# Altium footprint library dl001.PcbLib: 18 footprints (part 1 of 2)
Each footprint in its own frame and in the unit in brackets; x right, y up, seen from the top. Pads: shape width x height; smd on the part's side, far side on the other; paste and mask are expansions set on the pad; w line width, h text height; cw(c..) or ccw(c..) is an arc to the next point about the centre after c.
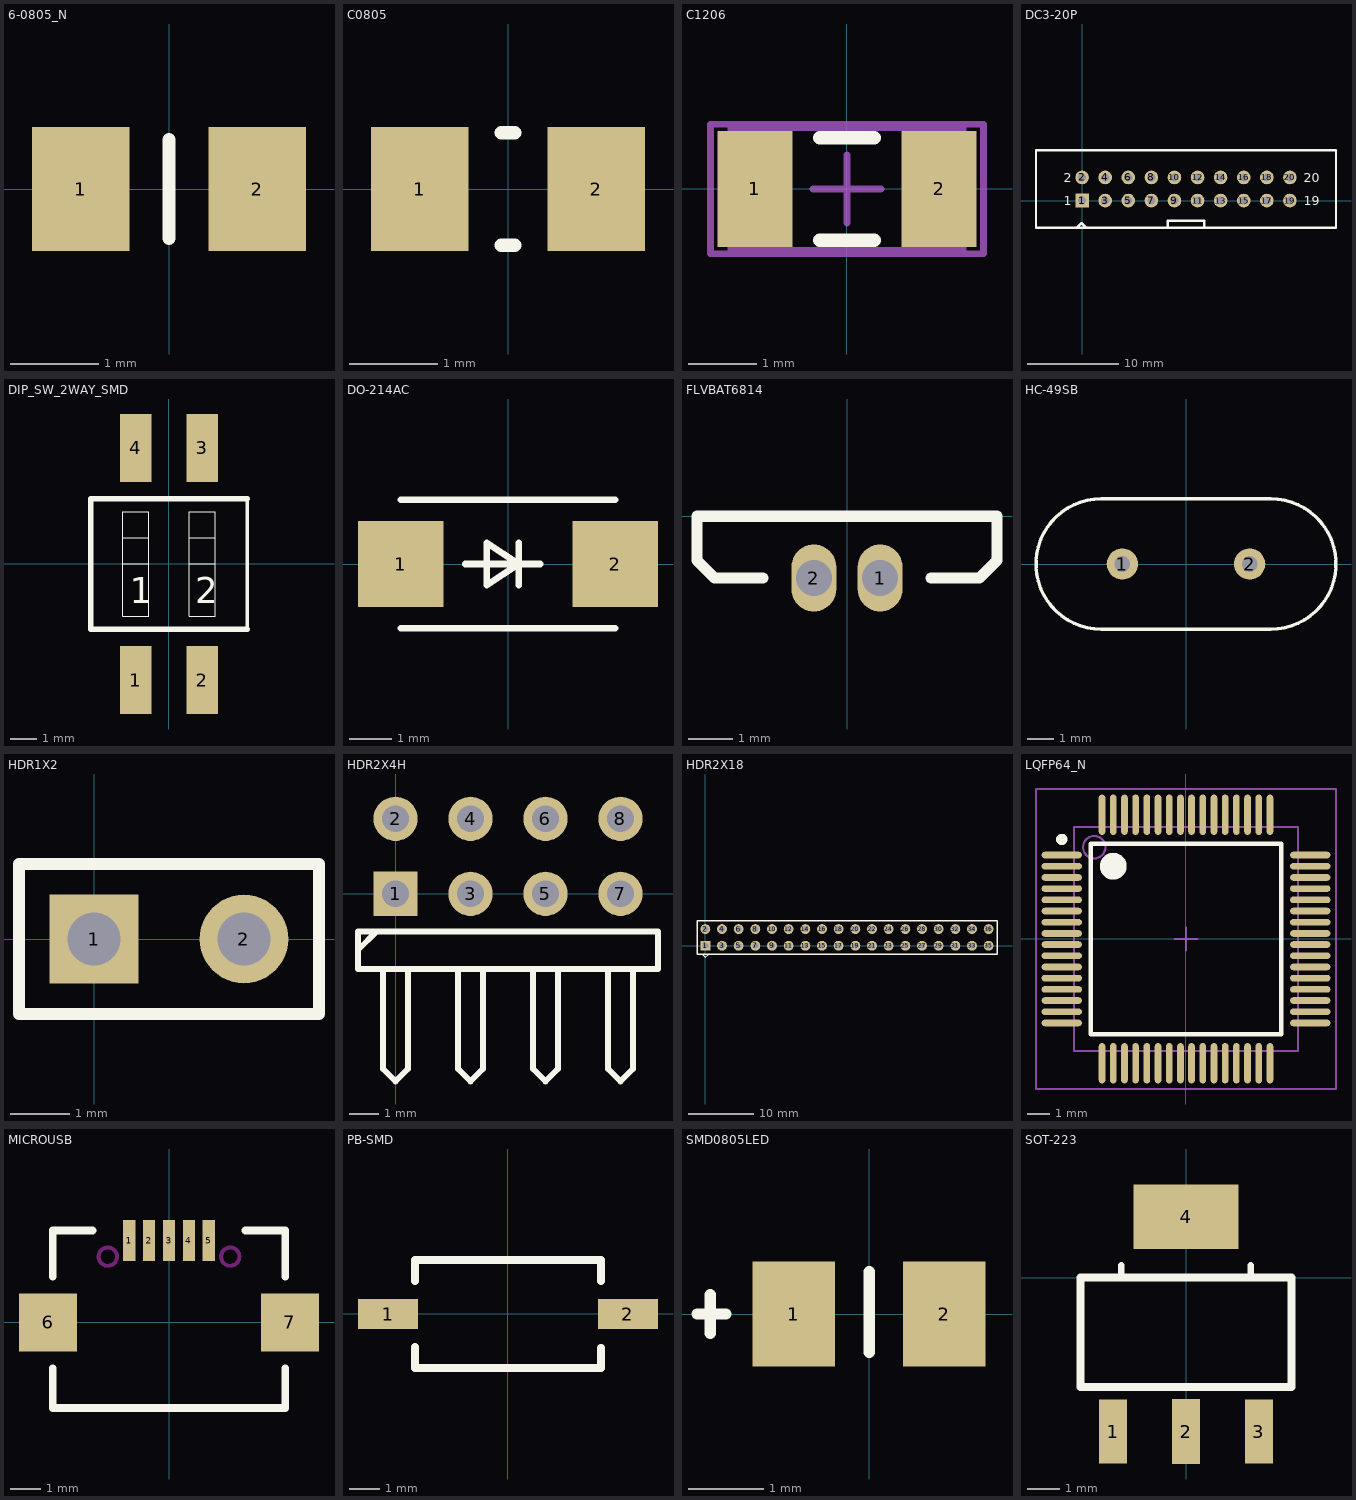
[diagram p0: the footprints below, top view; thin cyan lines are the x and y axes]

## 6-0805_N [mm] "Chip Resistor, Body 2.0x1.2mm, IPC Medium Density"
height 0.7
pads (2):
  rect 1.1x1.4 smd: 1(-1,0) 2(1,0)
Top Overlay:
  lines w0.152: 0,-0.559 0,0.559

## C0805 [mm] "Chip Capacitor, Body 2.0x1.3mm, IPC High Density"
height 1.4
pads (2):
  rect 1.1x1.4 smd: 1(-1,0) 2(1,0)
Top Overlay:
  lines w0.152: -0.076,-0.635 0.076,-0.635 ; -0.076,0.635 0.076,0.635

## C1206 [mm] "Chip Capacitor, Body 3.2x1.6mm, IPC High Density"
height 1.3
pads (2):
  rect 1.1x1.7 smd: 1(-1.35,0) 2(1.35,0)
Top Overlay:
  lines w0.2: -0.4,-0.75 0.4,-0.75 ; -0.4,0.75 0.4,0.75
Mechanical 13:
  lines w0.1: -1.7,-0.9 -1.7,0.9 1.7,0.9 1.7,-0.9 -1.7,-0.9
Mechanical 15:
  lines w0.1: -0.5,0 0.5,0 ; 0,-0.5 0,0.5 ; -2,-0.95 -2,0.95 2,0.95 2,-0.95 -2,-0.95
3D body: height 1.3, standoff 0, extent -1.7,-0.9 1.7,0.9

## DC3-20P [mm] "Connector; Header; 10x2 Position; Right Angle"
height 5
pads (20):
  rect 1.5x1.5 hole 0.9: 1(0,0)
  round 1.5 hole 0.9: 2(0,2.54) 3(2.54,0) 4(2.54,2.54) 5(5.08,0) 6(5.08,2.54) 7(7.62,0) 8(7.62,2.54) 9(10.16,0) 10(10.16,2.54) 11(12.7,0) 12(12.7,2.54) 13(15.24,0) 14(15.24,2.54) 15(17.78,0) 16(17.78,2.54) 17(20.32,0) 18(20.32,2.54) 19(22.86,0) 20(22.86,2.54)
Top Overlay:
  lines w0.254: -0.57,-2.98 -0.07,-2.48 0.43,-2.98 ; 9.43,-2.98 9.43,-2.23 13.43,-2.23 13.43,-2.98 ; -5.07,-2.98 -5.07,5.52 27.93,5.52 27.93,-2.98 -5.07,-2.98
  text "20" at 24.384,2.032 h1.02
  text "19" at 24.384,-0.508 h1.02
  text "2" at -2.032,2.032 h1.02
  text "1" at -2.032,-0.508 h1.02

## DIP_SW_2WAY_SMD [mm]
pads (4):
  rect 1.2x2.6 smd: 1(-1.27,-4.45) 2(1.27,-4.45) 3(1.27,4.45) 4(-1.27,4.45)
Top Overlay:
  lines w0.025: -1.77,0 -0.77,0 ; -1.77,1 -0.77,1 ; 0.77,0 1.77,0 ; 0.77,1 1.77,1 ; -1.77,-2 -1.77,2 -0.77,2 -0.77,-2 -1.77,-2 ; 0.77,-2 0.77,2 1.77,2 1.77,-2 0.77,-2
  lines w0.152: 3,-2.5 3,2.5
  lines w0.2: 3,-2.5 -3,-2.5 -3,2.5 3,2.5
  text "2" at 1,-1.5 h1
  text "1" at -1.5,-1.5 h1

## DO-214AC [mm]
height 2.032
pads (2):
  rect 2x2 smd: 1(-2.5,0) 2(2.5,0)
Top Overlay:
  lines w0.152: -2.5,-1.5 2.5,-1.5 ; -2.5,1.5 2.5,1.5 ; -1,0 0.75,0 ; 0.25,-0.5 0.25,0.5 ; -0.5,-0.5 -0.5,0.5 0.25,0 -0.5,-0.5

## FLVBAT6814 [mil]
height 267.72
pads (2):
  oval 40x60 hole 32: 1(29.53,-55.12) 2(-29.53,-55.12)
Top Overlay:
  lines w10: -75,-55 -118.11,-55.12 -133.86,-39.37 -133.86,0 133.86,0 133.86,-39.37 118.11,-55.12 75,-55

## HC-49SB [mm]
height 0.127
pads (2):
  round 1.2 hole 0.6: 1(-2.44,0) 2(2.44,0)
Top Overlay:
  lines w0.127: -3.25,-2.5 cw(c-3.25,0) -3.25,2.5 3.25,2.5 cw(c3.25,0) 3.25,-2.5 ; -3.25,-2.5 3.25,-2.5

## HDR1X2 [mm] "Connector; Header; 2 Position"
pads (2):
  rect 1.5x1.5 hole 0.9: 1(0,0)
  round 1.5 hole 0.9: 2(2.54,0)
Top Overlay:
  lines w0.2: -1.27,-1.27 -1.27,1.27 3.81,1.27 3.81,-1.27 -1.27,-1.27

## HDR2X4H [mm] "Connector; Header; 4x2 Position; Right Angle"
pads (8):
  rect 1.5x1.5 hole 0.9: 1(0,0)
  round 1.5 hole 0.9: 2(0,2.54) 3(2.54,0) 4(2.54,2.54) 5(5.08,0) 6(5.08,2.54) 7(7.62,0) 8(7.62,2.54)
Top Overlay:
  lines w0.2: -1.27,-1.905 -0.635,-1.27 ; -0.423,-2.54 -0.423,-5.927 0,-6.35 0.423,-5.927 0.423,-2.54 ; 2.117,-2.54 2.117,-5.927 2.54,-6.35 2.963,-5.927 2.963,-2.54 ; 4.657,-2.54 4.657,-5.927 5.08,-6.35 5.503,-5.927 5.503,-2.54 ; 7.197,-2.54 7.197,-5.927 7.62,-6.35 8.043,-5.927 8.043,-2.54 ; -1.27,-2.54 8.89,-2.54 8.89,-1.27 -1.27,-1.27 -1.27,-2.54

## HDR2X18 [mm] "Connector; Header; 18x2 Position"
pads (36):
  rect 1.5x1.5 hole 0.9: 1(0,0)
  round 1.5 hole 0.9: 2(0,2.54) 3(2.54,0) 4(2.54,2.54) 5(5.08,0) 6(5.08,2.54) 7(7.62,0) 8(7.62,2.54) 9(10.16,0) 10(10.16,2.54) 11(12.7,0) 12(12.7,2.54) 13(15.24,0) 14(15.24,2.54) 15(17.78,0) 16(17.78,2.54) 17(20.32,0) 18(20.32,2.54) 19(22.86,0) 20(22.86,2.54) 21(25.4,0) 22(25.4,2.54) 23(27.94,0) 24(27.94,2.54) 25(30.48,0) 26(30.48,2.54) 27(33.02,0) 28(33.02,2.54) 29(35.56,0) 30(35.56,2.54) 31(38.1,0) 32(38.1,2.54) 33(40.64,0) 34(40.64,2.54) 35(43.18,0) 36(43.18,2.54)
Top Overlay:
  lines w0.152: -0.5,-1.27 0,-1.75 0.5,-1.27
  lines w0.2: -1.27,-1.27 -1.27,3.81 44.45,3.81 44.45,-1.27 -1.27,-1.27

## LQFP64_N [mm] "Thin QFP, 64-Leads, Body 10x10mm, Pitch 0.5mm, IPC Medium Density"
height 1.6
pads (64):
  oval 1.8x0.3 smd: 1(-5.55,3.75) 2(-5.55,3.25) 3(-5.55,2.75) 4(-5.55,2.25) 5(-5.55,1.75) 6(-5.55,1.25) 7(-5.55,0.75) 8(-5.55,0.25) 9(-5.55,-0.25) 10(-5.55,-0.75) 11(-5.55,-1.25) 12(-5.55,-1.75) 13(-5.55,-2.25) 14(-5.55,-2.75) 15(-5.55,-3.25) 16(-5.55,-3.75) 33(5.55,-3.75) 34(5.55,-3.25) 35(5.55,-2.75) 36(5.55,-2.25) 37(5.55,-1.75) 38(5.55,-1.25) 39(5.55,-0.75) 40(5.55,-0.25) 41(5.55,0.25) 42(5.55,0.75) 43(5.55,1.25) 44(5.55,1.75) 45(5.55,2.25) 46(5.55,2.75) 47(5.55,3.25) 48(5.55,3.75)
  oval 0.3x1.8 smd: 17(-3.75,-5.55) 18(-3.25,-5.55) 19(-2.75,-5.55) 20(-2.25,-5.55) 21(-1.75,-5.55) 22(-1.25,-5.55) 23(-0.75,-5.55) 24(-0.25,-5.55) 25(0.25,-5.55) 26(0.75,-5.55) 27(1.25,-5.55) 28(1.75,-5.55) 29(2.25,-5.55) 30(2.75,-5.55) 31(3.25,-5.55) 32(3.75,-5.55) 49(3.75,5.55) 50(3.25,5.55) 51(2.75,5.55) 52(2.25,5.55) 53(1.75,5.55) 54(1.25,5.55) 55(0.75,5.55) 56(0.25,5.55) 57(-0.25,5.55) 58(-0.75,5.55) 59(-1.25,5.55) 60(-1.75,5.55) 61(-2.25,5.55) 62(-2.75,5.55) 63(-3.25,5.55) 64(-3.75,5.55)
Top Overlay:
  circle w0.6: c-3.25,3.25 r0.3
  circle w0.25: c-5.55,4.45 r0.125
  lines w0.2: -4.25,-4.25 4.25,-4.25 4.25,4.25 -4.25,4.25 -4.25,-4.25
Mechanical 13:
  circle w0.1: c-4.1,4.1 r0.5
  lines w0.1: -5,-5 5,-5 5,5 -5,5 -5,-5
Mechanical 15:
  lines w0.1: -0.5,0 0.5,0 ; 0,-0.5 0,0.5 ; -6.7,-6.7 6.7,-6.7 6.7,6.7 -6.7,6.7 -6.7,-6.7
3D body: height 1.6, standoff 0, extent -5,-5 5,5

## MICROUSB [mm] "MICROUSB-B"
height 5
pads (7):
  rect 0.4x1.35 smd: 1(-1.3,2.675) 2(-0.65,2.675) 3(0,2.675) 4(0.65,2.675) 5(1.3,2.675)
  rect 1.9x1.9 smd: 6(-3.95,0) 7(3.95,0)
Top Overlay:
  lines w0.254: -3.8,-1.5 -3.8,-2.8 3.8,-2.8 3.8,-1.5 ; -3.8,1.5 -3.8,3 -2.5,3 ; 2.5,3 3.8,3 3.8,1.5
Keep-Out Layer:
  circle w0.127: c-2,2.15 r0.3
  circle w0.127: c2,2.15 r0.3

## PB-SMD [mm]
height 5
pads (2):
  rect 2x1 smd: 1(-4,0) 2(4,0)
Top Overlay:
  lines w0.254: -3.1,-1.1 -3.1,-1.8 3,-1.8 ; -3.1,1.1 -3.1,1.8 3.1,1.8 3.1,1.1 ; 3.1,-1.8 3.1,-1.128

## SMD0805LED [mm]
pads (2):
  rect 1.1x1.4 smd: 1(-1,0) 2(1,0)
Top Overlay:
  lines w0.152: -2.286,0 -1.905,0 ; -2.108,-0.254 -2.108,0.254 ; 0,-0.508 0,0.559

## SOT-223 [mil]
pads (4):
  rect 34x78.74 smd: 1(-90,-190) 3(90,-190)
  rect 34x80 smd: 2(0,-190)
  rect 130x80 smd: 4(0,75)
Top Overlay:
  lines w8: -80,0 -80,15 ; 80,0 80,15
  lines w10: -130,-135 130,-135 130,0 -130,0 -130,-135